# Altium integrated library Altium_LED.IntLib: 24 symbols
Pins are listed as number, name and electrical type; pins without a type are passive.

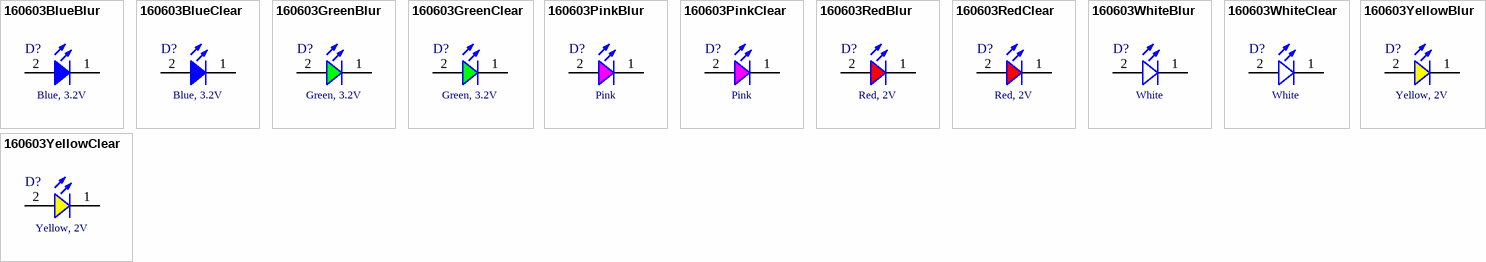
[diagram p0: symbols 160603BlueBlur to 160603YellowClear]

## 160603BlueBlur
designator D?, comment Blue, 3.2V
WL-SMCW SMT Mono-color Chip LED Blur, size 0603, Blue, 3.2V, 140deg; Manufacturer: ams OSRAM; Manufacturer Part Number: LB Q39E-L2OO-35-1; Color: Blue; Type: Blur; ComponentLink1Description: Datasheet; ComponentLink1URL: N/A; Supplier 1 URL: https://www.mouser.vn/ProductDetail/ams-OSRAM/LB-Q39E-L2OO-35-1?qs=74fRo9GAWsz%2FeNvglIOl1w%3D%3D; Supplier 2 URL: https://www.digikey.com/en/products/detail/ams-osram-usa-inc/LB-Q39E-N1OO-35-1/2176321; Supplier 3 URL: N/A; Value: Blue, 3.2V; Mount: SMD/SMT; Operating Temperature Max: + 85 C; Operating Temperature Min: - 40 C; Package / Case: 0603; Packaging: Tape and Reel; Supplier 1: Mouser; Supplier 1 Part Number: 720-LBQ39EL2N2351; Supplier 2: Digi-Key; Supplier 2 Part Number: 475-LBQ39E-N1OO-35-1TR-ND; Supplier 3: thegioiic; Supplier 3 Part Number: N/A; LCSC Part #: N/A
footprint WL-SMCW_0603_H=0.7mm (SMD Mono-color Chip LED, body 1.6x0.8mm)
pins: 1 K, 2 A

## 160603BlueClear
designator D?, comment Blue, 3.2V
WL-SMCW SMT Mono-color Chip LED Waterclear, size 0603, Blue, 3.2V, 140deg; Manufacturer: Wurth Elektronik; Manufacturer Part Number: 150060GS75000; Type: Clear; Color: Blue; ComponentLink1Description: Datasheet; ComponentLink1URL: https://www.we-online.com/catalog/datasheet/150060GS75000.pdf; Supplier 1 URL: https://www.mouser.vn/ProductDetail/Wurth-Elektronik/150060BS75003?qs=Li%252BoUPsLEnu8LvIbM48DKA%3D%3D; Supplier 2 URL: https://www.digikey.com/en/products/detail/liteon/LTST-C191TBKT/388530; Supplier 3 URL: https://www.thegioiic.com/led-xanh-duong-0603-dan-smd-trong-suot; Value: Blue, 3.2V; Mount: SMD/SMT; Operating Temperature Max: + 85 C; Operating Temperature Min: - 40 C; Package / Case: 0603; Packaging: Tape and Reel; Supplier 1: Mouser; Supplier 1 Part Number: 710-150060GS75000; Supplier 2: Digi-Key; Supplier 2 Part Number: 160-1647-2-ND; Supplier 3: thegioiic; Supplier 3 Part Number: N/A; LCSC Part #: C965807
footprint WL-SMCW_0603_H=0.7mm (SMD Mono-color Chip LED, body 1.6x0.8mm)
pins: 1 K, 2 A

## 160603GreenBlur
designator D?, comment Green, 3.2V
WL-SMCW SMT Mono-color Chip LED Blur, size 0603, Green, 3.2V, 140deg; Manufacturer: ROHM Semiconductor; Manufacturer Part Number: SMLD12EN1WT86; Color: Green; Type: Blur; ComponentLink1Description: Datasheet; ComponentLink1URL: https://www.rohm.com/datasheet?p=CSL1901VW&dist=Mouser&media=referral&source=mouser.com&campaign=Mouser; Supplier 1 URL: https://www.mouser.vn/ProductDetail/ROHM-Semiconductor/SMLD12EN1WT86?qs=qSfuJ%252Bfl%2Fd4fR%252B9yZydIwg%3D%3D; Supplier 2 URL: https://www.digikey.com/en/products/detail/rohm-semiconductor/SML-D12M8WT86/1641797; Supplier 3 URL: N/A; Value: Green, 3.2V; Mount: SMD/SMT; Operating Temperature Max: + 85 C; Operating Temperature Min: - 40 C; Package / Case: 0603; Packaging: Tape and Reel; Supplier 1: Mouser; Supplier 1 Part Number: 755-SMLD12EN1WT86; Supplier 2: Digi-Key; Supplier 2 Part Number: 511-1578-2-ND; Supplier 3: thegioiic; Supplier 3 Part Number: N/A; LCSC Part #: N/A
footprint WL-SMCW_0603_H=0.7mm (SMD Mono-color Chip LED, body 1.6x0.8mm)
pins: 1 K, 2 A

## 160603GreenClear
designator D?, comment Green, 3.2V
WL-SMCW SMT Mono-color Chip LED Waterclear, size 0603, Green, 3.2V, 140deg; Manufacturer: Silverlight; Manufacturer Part Number: P0603P1N46G12; Type: Clear; Color: Green; ComponentLink1Description: Datasheet; ComponentLink1URL: N/A; Supplier 1 URL: https://www.mouser.vn/ProductDetail/Wurth-Elektronik/150060GS75000?qs=LlUlMxKIyB0UYkq5lDO8nA%3D%3D; Supplier 2 URL: https://www.digikey.com/en/products/detail/liteon/LTST-C191KGKT/386835; Supplier 3 URL: https://www.thegioiic.com/led-xanh-la-0603-dan-smd-trong-suot; Value: Green, 3.2V; Mount: SMD/SMT; Operating Temperature Max: + 85 C; Operating Temperature Min: - 40 C; Package / Case: 0603; Packaging: Tape and Reel; Supplier 1: Mouser; Supplier 1 Part Number: 710-150060GS75000; Supplier 2: Digi-Key; Supplier 2 Part Number: 160-1446-2-ND; Supplier 3: thegioiic; Supplier 3 Part Number: N/A; LCSC Part #: C965804
footprint WL-SMCW_0603_H=0.7mm (SMD Mono-color Chip LED, body 1.6x0.8mm)
pins: 1 K, 2 A

## 160603PinkBlur
designator D?, comment Pink
WL-SMCW SMT Mono-color Chip LED Blur, size 0603, Pink; Manufacturer: Wurth Elektronik; Manufacturer Part Number: 150060GS75000; Color: Pink; Type: Blur; ComponentLink1Description: Datasheet; ComponentLink1URL: https://www.we-online.com/catalog/datasheet/150060GS75000.pdf; Supplier 1 URL: N/A; Supplier 2 URL: https://www.digikey.com/en/products/detail/rohm-semiconductor/SMLD12HBC7W1/3587026; Supplier 3 URL: N/A; Value: Pink; Mount: SMD/SMT; Operating Temperature Max: + 85 C; Operating Temperature Min: - 40 C; Package / Case: 0603; Packaging: Tape and Reel; Supplier 1: Mouser; Supplier 1 Part Number: N/A; Supplier 2: Digi-Key; Supplier 2 Part Number: 846-1108-2-ND; Supplier 3: thegioiic; Supplier 3 Part Number: N/A; LCSC Part #: N/A
footprint WL-SMCW_0603_H=0.7mm (SMD Mono-color Chip LED, body 1.6x0.8mm)
pins: 1 K, 2 A

## 160603PinkClear
designator D?, comment Pink
WL-SMCW SMT Mono-color Chip LED Waterclear, size 0603, Pink; Manufacturer: ams OSRAM; Type: Clear; Color: Pink; ComponentLink1Description: Datasheet; ComponentLink1URL: N/A; Supplier 1 URL: N/A; Supplier 2 URL: https://www.digikey.com/en/products/detail/panasonic-electronic-components/LNJP12X8ARA/2641773; Supplier 3 URL: https://www.thegioiic.com/led-hong-0603-dan-smd-trong-suot; Value: Pink; Mount: SMD/SMT; Operating Temperature Max: + 85 C; Operating Temperature Min: - 40 C; Package / Case: 0603; Packaging: Tape and Reel; Supplier 1: Mouser; Supplier 1 Part Number: N/A; Supplier 2: Digi-Key; Supplier 2 Part Number: LNJP12X8ARATR-ND; Supplier 3: thegioiic; Supplier 3 Part Number: N/A; LCSC Part #: C2977076
footprint WL-SMCW_0603_H=0.7mm (SMD Mono-color Chip LED, body 1.6x0.8mm)
pins: 1 K, 2 A

## 160603RedBlur
designator D?, comment Red, 2V
WL-SMCW SMT Mono-color Chip LED Blur, size 0603, Red, 2V, 140deg; Manufacturer: ROHM Semiconductor; Manufacturer Part Number: CSL1901VW1; Color: Red; Type: Blur; ComponentLink1Description: Datasheet; ComponentLink1URL: https://www.rohm.com/datasheet?p=CSL1901VW&dist=Mouser&media=referral&source=mouser.com&campaign=Mouser; Supplier 1 URL: https://www.mouser.vn/ProductDetail/ROHM-Semiconductor/CSL1901VW1?qs=vvQtp7zwQdNmrXZcE27xEA%3D%3D; Supplier 2 URL: https://www.digikey.com/en/products/detail/rohm-semiconductor/SML-D12U8WT86/1641799; Supplier 3 URL: N/A; Value: Red, 2V; Mount: SMD/SMT; Operating Temperature Max: + 85 C; Operating Temperature Min: - 40 C; Package / Case: 0603; Packaging: Tape and Reel; Supplier 1: Mouser; Supplier 1 Part Number: 755-CSL1901VW1; Supplier 2: Digi-Key; Supplier 2 Part Number: 511-1580-2-ND; Supplier 3: thegioiic; Supplier 3 Part Number: N/A; LCSC Part #: N/A
footprint WL-SMCW_0603_H=0.7mm (SMD Mono-color Chip LED, body 1.6x0.8mm)
pins: 1 K, 2 A

## 160603RedClear
designator D?, comment Red, 2V
WL-SMCW SMT Mono-color Chip LED Waterclear, size 0603, Red, 2V, 140deg; Manufacturer: Wurth Elektronik; Manufacturer Part Number: 150060RS75000; Type: Clear; Color: Red; ComponentLink1Description: Datasheet; ComponentLink1URL: https://www.we-online.com/catalog/datasheet/150060RS75000.pdf; Supplier 1 URL: https://www.mouser.vn/ProductDetail/Wurth-Elektronik/150060RS75000?qs=LlUlMxKIyB3QnmZ3fw%2FVCA%3D%3D; Supplier 2 URL: https://www.digikey.com/en/products/detail/liteon/LTST-C191KRKT/386837; Supplier 3 URL: https://www.thegioiic.com/led-do-0603-dan-smd-trong-suot; Value: Red, 2V; Mount: SMD/SMT; Operating Temperature Max: + 85 C; Operating Temperature Min: - 40 C; Package / Case: 0603; Packaging: Tape and Reel; Supplier 1: Mouser; Supplier 1 Part Number: 710-150060RS75000; Supplier 2: Digi-Key; Supplier 2 Part Number: 160-1447-2-ND; Supplier 3: thegioiic; Supplier 3 Part Number: N/A; LCSC Part #: C965799
footprint WL-SMCW_0603_H=0.7mm (SMD Mono-color Chip LED, body 1.6x0.8mm)
pins: 1 K, 2 A

## 160603WhiteBlur
designator D?, comment White
WL-SMCW SMT Mono-color Chip LED Blur, size 0603, White; Manufacturer: ROHM Semiconductor; Manufacturer Part Number: SMLEN3WBC8W1; Color: White; Type: Blur; ComponentLink1Description: Datasheet; ComponentLink1URL: https://www.rohm.com/datasheet?p=CSL1901VW&dist=Mouser&media=referral&source=mouser.com&campaign=Mouser; Supplier 1 URL: https://www.mouser.vn/ProductDetail/ROHM-Semiconductor/SMLEN3WBC8W1?qs=W0yvOO0ixfGun78rr9Unsw%3D%3D; Supplier 2 URL: https://www.digikey.com/en/products/detail/qt-brightek-qtb/QBLP601-IW/4814655; Supplier 3 URL: N/A; Value: White; Mount: SMD/SMT; Operating Temperature Max: + 85 C; Operating Temperature Min: - 40 C; Package / Case: 0603; Packaging: Tape and Reel; Supplier 1: Mouser; Supplier 1 Part Number: 755-SMLEN3WBC8W1; Supplier 2: Digi-Key; Supplier 2 Part Number: 1516-1057-2-ND; Supplier 3: thegioiic; Supplier 3 Part Number: N/A; LCSC Part #: N/A
footprint WL-SMCW_0603_H=0.7mm (SMD Mono-color Chip LED, body 1.6x0.8mm)
pins: 1 K, 2 A

## 160603WhiteClear
designator D?, comment White
WL-SMCW SMT Mono-color Chip LED Waterclear, size 0603, White; Manufacturer: ROHM Semiconductor; Manufacturer Part Number: SMLA12WBN7W1; Type: Clear; Color: White; ComponentLink1Description: Datasheet; ComponentLink1URL: https://www.rohm.com/datasheet?p=CSL1901VW&dist=Mouser&media=referral&source=mouser.com&campaign=Mouser; Supplier 1 URL: https://www.mouser.vn/ProductDetail/ROHM-Semiconductor/SMLA12WBN7W1?qs=TCDPyi3sCW1efPV6dhaUAA%3D%3D; Supplier 2 URL: https://www.digikey.com/en/products/detail/inolux/IN-S63AT5UW/7604931; Supplier 3 URL: https://www.thegioiic.com/led-trang-0603-dan-smd-trong-suot; Value: White; Mount: SMD/SMT; Operating Temperature Max: + 85 C; Operating Temperature Min: - 40 C; Package / Case: 0603; Packaging: Tape and Reel; Supplier 1: Mouser; Supplier 1 Part Number: 755-SMLA12WBN7W1; Supplier 2: Digi-Key; Supplier 2 Part Number: 1830-1063-2-ND; Supplier 3: thegioiic; Supplier 3 Part Number: N/A; LCSC Part #: C965808
footprint WL-SMCW_0603_H=0.7mm (SMD Mono-color Chip LED, body 1.6x0.8mm)
pins: 1 K, 2 A

## 160603YellowBlur
designator D?, comment Yellow, 2V
WL-SMCW SMT Mono-color Chip LED Blur, size 0603, Yellow, 2V, 140deg; Manufacturer: ROHM Semiconductor; Manufacturer Part Number: CSL1901YW1; Color: Yellow; Type: Blur; ComponentLink1Description: Datasheet; ComponentLink1URL: https://www.rohm.com/datasheet?p=CSL1901VW&dist=Mouser&media=referral&source=mouser.com&campaign=Mouser; Supplier 1 URL: https://www.mouser.vn/ProductDetail/ROHM-Semiconductor/CSL1901YW1?qs=vvQtp7zwQdO0NUeC1uqWRA%3D%3D; Supplier 2 URL: https://www.digikey.com/en/products/detail/rohm-semiconductor/SML-D12Y8WT86/1641801; Supplier 3 URL: N/A; Value: Yellow, 2V; Mount: SMD/SMT; Operating Temperature Max: + 85 C; Operating Temperature Min: - 40 C; Package / Case: 0603; Packaging: Tape and Reel; Supplier 1: Mouser; Supplier 1 Part Number: 755-CSL1901YW1; Supplier 2: Digi-Key; Supplier 2 Part Number: 511-1582-2-ND; Supplier 3: thegioiic; Supplier 3 Part Number: N/A; LCSC Part #: N/A
footprint WL-SMCW_0603_H=0.7mm (SMD Mono-color Chip LED, body 1.6x0.8mm)
pins: 1 K, 2 A

## 160603YellowClear
designator D?, comment Yellow, 2V
WL-SMCW SMT Mono-color Chip LED Waterclear, size 0603, Yellow, 2V, 140deg; Manufacturer: Wurth Elektronik; Manufacturer Part Number: 150060YS75003; Type: Clear; Color: Yellow; ComponentLink1Description: Datasheet; ComponentLink1URL: N/A; Supplier 1 URL: https://www.mouser.com/ProductDetail/Wurth-Elektronik/150060YS75003?qs=Li%252BoUPsLEnvfob7qsAi9dA%3D%3D; Supplier 2 URL: https://www.digikey.com/en/products/detail/liteon/LTST-C191KSKT/386839; Supplier 3 URL: https://icdayroi.com/led-yellow-0603; Value: Yellow, 2V; Mount: SMD/SMT; Operating Temperature Max: + 85 C; Operating Temperature Min: - 40 C; Package / Case: 0603; Packaging: Tape and Reel; Supplier 1: Mouser; Supplier 1 Part Number: 710-150060YS75003; Supplier 2: Digi-Key; Supplier 2 Part Number: 160-1448-2-ND; Supplier 3: ICDayRoi; Supplier 3 Part Number: N/A; LCSC Part #: C965810
footprint WL-SMCW_0603_H=0.7mm (SMD Mono-color Chip LED, body 1.6x0.8mm)
pins: 1 K, 2 A


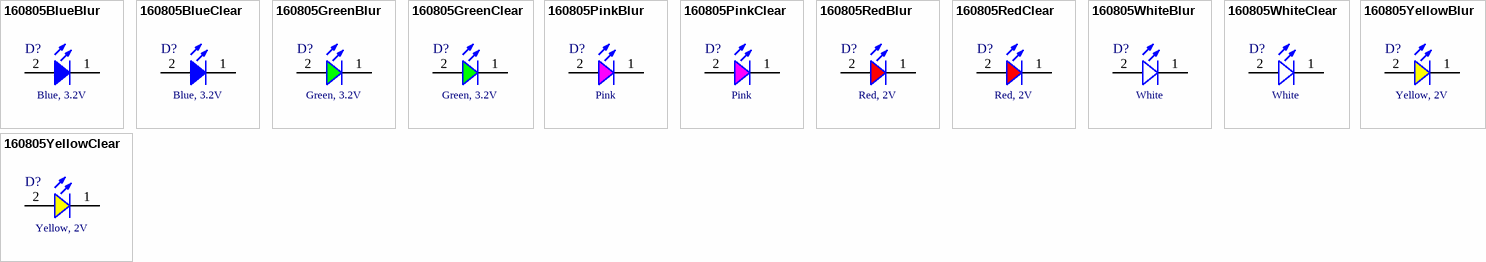
[diagram p1: symbols 160805BlueBlur to 160805YellowClear]

## 160805BlueBlur
designator D?, comment Blue, 3.2V
WL-SMCW SMT Mono-color Chip LED Blur, size 0805, Blue, 3.2V, 140deg; Manufacturer: Broadcom / Avago; Manufacturer Part Number: HSMR-C170; Color: Blue; Type: Blur; ComponentLink1Description: Datasheet; ComponentLink1URL: N/A; Supplier 1 URL: https://www.mouser.vn/ProductDetail/Broadcom-Avago/HSMR-C170?qs=YDL0qNrpDT75U8LW5zK4Qg%3D%3D; Supplier 2 URL: https://www.digikey.com/en/products/detail/broadcom-limited/HSMR-C170/637706; Supplier 3 URL: N/A; Value: Blue, 3.2V; Mount: SMD/SMT; Operating Temperature Max: + 85 C; Operating Temperature Min: - 40 C; Package / Case: 0805; Packaging: Tape and Reel; Supplier 1: Mouser; Supplier 1 Part Number: 630-HSMR-C170; Supplier 2: Digi-Key; Supplier 2 Part Number: 516-1445-2-ND; Supplier 3: thegioiic; Supplier 3 Part Number: N/A; LCSC Part #: N/A
footprint WL-SMCW_0805 (SMD Mono-color Chip LED, body 2.0x1.25mm)
pins: 1 K, 2 A

## 160805BlueClear
designator D?, comment Blue, 3.2V
WL-SMCW SMT Mono-color Chip LED Waterclear, size 0805, Blue, 3.2V, 140deg; Manufacturer: Wurth Elektronik; Manufacturer Part Number: 150080BS75000; Type: Clear; Color: Blue; ComponentLink1Description: Datasheet; ComponentLink1URL: N/A; Supplier 1 URL: https://www.mouser.vn/ProductDetail/Wurth-Elektronik/150080BS75000?qs=2kOmHSv6VfT2tBo3UPVqAQ%3D%3D; Supplier 2 URL: https://www.digikey.com/en/products/detail/liteon/LTST-C170TBKT/388527; Supplier 3 URL: https://www.thegioiic.com/led-xanh-duong-0805-dan-smd-trong-suot-harvatek; Value: Blue, 3.2V; Mount: SMD/SMT; Operating Temperature Max: + 85 C; Operating Temperature Min: - 40 C; Package / Case: 0805; Packaging: Tape and Reel; Supplier 1: Mouser; Supplier 1 Part Number: 710-150080BS75000; Supplier 2: Digi-Key; Supplier 2 Part Number: 160-1579-2-ND; Supplier 3: thegioiic; Supplier 3 Part Number: N/A; LCSC Part #: N/A
footprint WL-SMCW_0805 (SMD Mono-color Chip LED, body 2.0x1.25mm)
pins: 1 K, 2 A

## 160805GreenBlur
designator D?, comment Green, 3.2V
WL-SMCW SMT Mono-color Chip LED Blur, size 0805, Green, 3.2V, 140deg; Manufacturer: Broadcom / Avago; Manufacturer Part Number: HSMG-C170; Color: Green; Type: Blur; ComponentLink1Description: Datasheet; ComponentLink1URL: N/A; Supplier 1 URL: https://www.mouser.vn/ProductDetail/Broadcom-Avago/HSMG-C170?qs=YDL0qNrpDT4lm8ArMPkMEA%3D%3D; Supplier 2 URL: SML-LXT0805GW-TR Lumex Opto/Components Inc. | Optoelectronics | DigiKey; Supplier 3 URL: N/A; Value: Green, 3.2V; Mount: SMD/SMT; Operating Temperature Max: + 85 C; Operating Temperature Min: - 40 C; Package / Case: 0805; Packaging: Tape and Reel; Supplier 1: Mouser; Supplier 1 Part Number: 630-HSMG-C170; Supplier 2: Digi-Key; Supplier 2 Part Number: 67-1553-2-ND; Supplier 3: thegioiic; Supplier 3 Part Number: N/A; LCSC Part #: N/A
footprint WL-SMCW_0805 (SMD Mono-color Chip LED, body 2.0x1.25mm)
pins: 1 K, 2 A

## 160805GreenClear
designator D?, comment Green, 3.2V
WL-SMCW SMT Mono-color Chip LED Waterclear, size 0805, Green, 3.2V, 140deg; Manufacturer: Wurth Elektronik; Manufacturer Part Number: 150080VS75000; Type: Clear; Color: Green; ComponentLink1Description: Datasheet; ComponentLink1URL: N/A; Supplier 1 URL: https://www.mouser.vn/ProductDetail/Wurth-Elektronik/150080VS75000?qs=LlUlMxKIyB0tGHJmO6%252B0ug%3D%3D; Supplier 2 URL: https://www.digikey.com/en/products/detail/liteon/LTST-C171GKT/386793; Supplier 3 URL: https://www.thegioiic.com/led-xanh-la-0805-dan-smd-trong-suot; Value: Green, 3.2V; Mount: SMD/SMT; Operating Temperature Max: + 85 C; Operating Temperature Min: - 40 C; Package / Case: 0805; Packaging: Tape and Reel; Supplier 1: Mouser; Supplier 1 Part Number: 710-150080VS75000; Supplier 2: Digi-Key; Supplier 2 Part Number: 160-1423-2-ND; Supplier 3: thegioiic; Supplier 3 Part Number: N/A; LCSC Part #: N/A
footprint WL-SMCW_0805 (SMD Mono-color Chip LED, body 2.0x1.25mm)
pins: 1 K, 2 A

## 160805PinkBlur
designator D?, comment Pink
WL-SMCW SMT Mono-color Chip LED Blur, size 0805, Pink; Color: Pink; Type: Blur; ComponentLink1Description: Datasheet; ComponentLink1URL: N/A; Supplier 1 URL: N/A; Supplier 2 URL: https://www.digikey.com/en/products/detail/rohm-semiconductor/SMLD12HBC7W1/3587026; Supplier 3 URL: N/A; Value: Pink; Manufacturer: N/A; Manufacturer Part Number: N/A; Mount: SMD/SMT; Operating Temperature Max: + 85 C; Operating Temperature Min: - 40 C; Package / Case: 0805; Packaging: Tape and Reel; Supplier 1: Mouser; Supplier 1 Part Number: N/A; Supplier 2: Digi-Key; Supplier 2 Part Number: N/A; Supplier 3: thegioiic; Supplier 3 Part Number: N/A; LCSC Part #: N/A
footprint WL-SMCW_0805 (SMD Mono-color Chip LED, body 2.0x1.25mm)
pins: 1 K, 2 A

## 160805PinkClear
designator D?, comment Pink
WL-SMCW SMT Mono-color Chip LED Waterclear, size 0805, Pink; Type: Clear; Color: Pink; ComponentLink1Description: Datasheet; ComponentLink1URL: N/A; Supplier 1 URL: N/A; Supplier 2 URL: https://www.digikey.com/en/products/detail/panasonic-electronic-components/LNJP12X8ARA/2641773; Supplier 3 URL: https://www.thegioiic.com/led-hong-0805-dan-smd-trong-suot; Value: Pink; Manufacturer: N/A; Manufacturer Part Number: N/A; Mount: SMD/SMT; Operating Temperature Max: + 85 C; Operating Temperature Min: - 40 C; Package / Case: 0805; Packaging: Tape and Reel; Supplier 1: Mouser; Supplier 1 Part Number: N/A; Supplier 2: Digi-Key; Supplier 2 Part Number: N/A; Supplier 3: thegioiic; Supplier 3 Part Number: N/A; LCSC Part #: N/A
footprint WL-SMCW_0805 (SMD Mono-color Chip LED, body 2.0x1.25mm)
pins: 1 K, 2 A

## 160805RedBlur
designator D?, comment Red, 2V
WL-SMCW SMT Mono-color Chip LED Blur, size 0805, Red, 2V, 140deg; Manufacturer: ams OSRAM; Manufacturer Part Number: LSR976-NR-1; Color: Red; Type: Blur; ComponentLink1Description: Datasheet; ComponentLink1URL: N/A; Supplier 1 URL: https://www.mouser.vn/ProductDetail/ams-OSRAM/LS-R976-NR-1?qs=K5ta8V%252BWhtZhvCAe1sTZFg%3D%3D; Supplier 2 URL: https://www.digikey.com/en/products/detail/lumex-opto-components-inc/SML-LXT0805IW-TR/304365; Supplier 3 URL: N/A; Value: Red, 2V; Mount: SMD/SMT; Operating Temperature Max: + 85 C; Operating Temperature Min: - 40 C; Package / Case: 0805; Packaging: Tape and Reel; Supplier 1: Mouser; Supplier 1 Part Number: 720-LSR976-NR-1; Supplier 2: Digi-Key; Supplier 2 Part Number: 67-1552-2-ND; Supplier 3: thegioiic; Supplier 3 Part Number: N/A; LCSC Part #: N/A
footprint WL-SMCW_0805 (SMD Mono-color Chip LED, body 2.0x1.25mm)
pins: 1 K, 2 A

## 160805RedClear
designator D?, comment Red, 2V
WL-SMCW SMT Mono-color Chip LED Waterclear, size 0805, Red, 2V, 140deg; Manufacturer: Broadcom / Avago; Manufacturer Part Number: SML-H12U8TT86C; Type: Clear; Color: Red; ComponentLink1Description: Datasheet; ComponentLink1URL: N/A; Supplier 1 URL: https://www.mouser.vn/ProductDetail/ROHM-Semiconductor/SML-H12U8TT86C?qs=HXFqYaX1Q2xs%2F%252BL6XLQEvw%3D%3D; Supplier 2 URL: https://www.digikey.com/en/products/detail/liteon/LTST-C171KRKT/386801; Supplier 3 URL: https://www.thegioiic.com/led-do-0805-dan-smd-trong-suot-harvatek; Value: Red, 2V; Mount: SMD/SMT; Operating Temperature Max: + 85 C; Operating Temperature Min: - 40 C; Package / Case: 0805; Packaging: Tape and Reel; Supplier 1: Mouser; Supplier 1 Part Number: 755-SML-H12U8TT86C; Supplier 2: Digi-Key; Supplier 2 Part Number: 160-1427-2-ND; Supplier 3: thegioiic; Supplier 3 Part Number: N/A; LCSC Part #: N/A
footprint WL-SMCW_0805 (SMD Mono-color Chip LED, body 2.0x1.25mm)
pins: 1 K, 2 A

## 160805WhiteBlur
designator D?, comment White
WL-SMCW SMT Mono-color Chip LED Blur, size 0805, White; Manufacturer: Inolux; Manufacturer Part Number: IN-S85AT5UW; Color: White; Type: Blur; ComponentLink1Description: Datasheet; ComponentLink1URL: N/A; Supplier 1 URL: https://www.mouser.vn/ProductDetail/Inolux/IN-S85AT5UW?qs=fAHHVMwC%252BbgX8qoUxtYjNQ%3D%3D; Supplier 2 URL: https://www.digikey.com/en/products/detail/qt-brightek-qtb/QBLP631-IW/4814683; Supplier 3 URL: N/A; Value: White; Mount: SMD/SMT; Operating Temperature Max: + 85 C; Operating Temperature Min: - 40 C; Package / Case: 0805; Packaging: Tape and Reel; Supplier 1: Mouser; Supplier 1 Part Number: 743-IN-S85AT5UW; Supplier 2: Digi-Key; Supplier 2 Part Number: 1516-1085-2-ND; Supplier 3: thegioiic; Supplier 3 Part Number: N/A; LCSC Part #: N/A
footprint WL-SMCW_0805 (SMD Mono-color Chip LED, body 2.0x1.25mm)
pins: 1 K, 2 A

## 160805WhiteClear
designator D?, comment White
WL-SMCW SMT Mono-color Chip LED Waterclear, size 0805, White; Manufacturer: Broadcom / Avago; Manufacturer Part Number: SML-LX0805UWCTR; Type: Clear; Color: White; ComponentLink1Description: Datasheet; ComponentLink1URL: N/A; Supplier 1 URL: https://www.mouser.vn/ProductDetail/Lumex/SML-LX0805UWC-TR?qs=26yrLECgo495e2ft2n1zkA%3D%3D; Supplier 2 URL: https://www.digikey.com/en/products/detail/inolux/IN-S85AT5UW/7604913; Supplier 3 URL: https://www.thegioiic.com/led-trang-0805-dan-smd-trong-suot; Value: White; Mount: SMD/SMT; Operating Temperature Max: + 85 C; Operating Temperature Min: - 40 C; Package / Case: 0805; Packaging: Tape and Reel; Supplier 1: Mouser; Supplier 1 Part Number: 696-SML-LX0805UWCTR; Supplier 2: Digi-Key; Supplier 2 Part Number: 1830-1080-2-ND; Supplier 3: thegioiic; Supplier 3 Part Number: N/A; LCSC Part #: N/A
footprint WL-SMCW_0805 (SMD Mono-color Chip LED, body 2.0x1.25mm)
pins: 1 K, 2 A

## 160805YellowBlur
designator D?, comment Yellow, 2V
WL-SMCW SMT Mono-color Chip LED Blur, size 0805, Yellow, 2V, 140deg; Manufacturer: Stanley Electric; Manufacturer Part Number: FY1112HTR; Color: Yellow; Type: Blur; ComponentLink1Description: Datasheet; ComponentLink1URL: N/A; Supplier 1 URL: https://www.mouser.vn/ProductDetail/Stanley-Electric/FY1112H-TR?qs=byeeYqUIh0M%2F1I90%252BhjkXg%3D%3D; Supplier 2 URL: https://www.digikey.com/en/products/detail/lumex-opto-components-inc/SML-LXT0805YW-TR/304369; Supplier 3 URL: N/A; Value: Yellow, 2V; Mount: SMD/SMT; Operating Temperature Max: + 85 C; Operating Temperature Min: - 40 C; Package / Case: 0805; Packaging: Tape and Reel; Supplier 1: Mouser; Supplier 1 Part Number: 327-FY1112HTR; Supplier 2: Digi-Key; Supplier 2 Part Number: 67-1554-2-ND; Supplier 3: thegioiic; Supplier 3 Part Number: N/A; LCSC Part #: N/A
footprint WL-SMCW_0805 (SMD Mono-color Chip LED, body 2.0x1.25mm)
pins: 1 K, 2 A

## 160805YellowClear
designator D?, comment Yellow, 2V
WL-SMCW SMT Mono-color Chip LED Waterclear, size 0805, Yellow, 2V, 140deg; Manufacturer: Wurth Elektronik; Manufacturer Part Number: 150080YS75000; Type: Clear; Color: Yellow; ComponentLink1Description: Datasheet; ComponentLink1URL: N/A; Supplier 1 URL: https://www.mouser.vn/ProductDetail/Wurth-Elektronik/150080YS75000?qs=LlUlMxKIyB3k0fZGrDMI2w%3D%3D; Supplier 2 URL: https://www.digikey.com/en/products/detail/liteon/LTST-C170KSKT/386781; Supplier 3 URL: https://www.thegioiic.com/led-vang-0805-dan-smd-trong-suot-harvatek; Value: Yellow, 2V; Mount: SMD/SMT; Operating Temperature Max: + 85 C; Operating Temperature Min: - 40 C; Package / Case: 0805; Packaging: Tape and Reel; Supplier 1: Mouser; Supplier 1 Part Number: 710-150080YS75000; Supplier 2: Digi-Key; Supplier 2 Part Number: 160-1416-2-ND; Supplier 3: thegioiic; Supplier 3 Part Number: N/A; LCSC Part #: N/A
footprint WL-SMCW_0805 (SMD Mono-color Chip LED, body 2.0x1.25mm)
pins: 1 K, 2 A